# EAGLE library part 61002221121 (library Wuerth_Elektronik_eiCan_Pin_&_Socked_Headers_v1.3)
WR-PHD 2.54mm Dual SMT Pin Header, 22 Pins
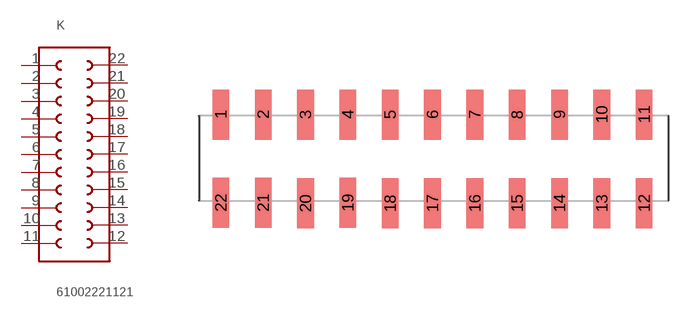
[diagram p99: symbol with the pads of 61002221121; footprint 61002221121]

Designator prefix K

## 61002221121  [61002221121]
1  1  pas
2  2  pas
3  3  pas
4  4  pas
5  5  pas
6  6  pas
7  7  pas
8  8  pas
9  9  pas
10  10  pas
11  11  pas
12  12  pas
13  13  pas
14  14  pas
15  15  pas
16  16  pas
17  17  pas
18  18  pas
19  19  pas
20  20  pas
21  21  pas
22  22  pas

## Footprint 61002221121 (pad centres in mm)
WR-PHD 2.54mm Dual SMT Pin Header, 22 Pins
smd 1 x 3: 1 -12.7,2.54; 2 -10.16,2.54; 3 -7.62,2.54; 4 -5.08,2.54; 5 -2.54,2.54; 6 0,2.54; 7 2.54,2.54; 8 5.08,2.54; 9 7.62,2.54; 10 10.16,2.54; 11 12.7,2.54; 12 12.7,-2.79; 13 10.16,-2.79; 14 7.62,-2.79; 15 5.08,-2.79; 16 2.54,-2.79; 17 0,-2.79; 18 -2.54,-2.79; 19 -5.08,-2.76; 20 -7.62,-2.79; 21 -10.16,-2.76; 22 -12.7,-2.76